# EAGLE library part DIP-SW-CVS-03 (library Transputer)
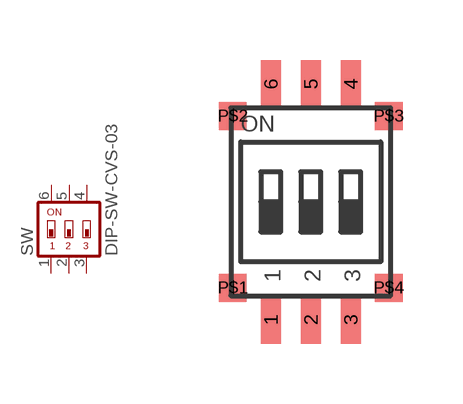
[diagram p15: symbol with the pads of DIP-SW-CVS-03; footprint DIP-SW-CVS-03]

Designator prefix SW

## DIP-SW-CVS-03  [DIP-SW-CVS-03]
1  1  pas
2  2  pas
3  3  pas
4  4  pas
5  5  pas
6  6  pas

## Footprint DIP-SW-CVS-03 (pad centres in mm)
smd 0.5 x 1.2: 1 -1,-2.95; 2 0,-2.95; 3 1,-2.95; 4 1,2.95; 5 0,2.95; 6 -1,2.95
smd 0.7 x 0.7: P$1 -1.95,-2.15; P$2 -1.95,2.15; P$3 1.95,2.15; P$4 1.95,-2.15